# EAGLE library part CY8C-KIT_CY8C-KIT (library BeoModern_display)
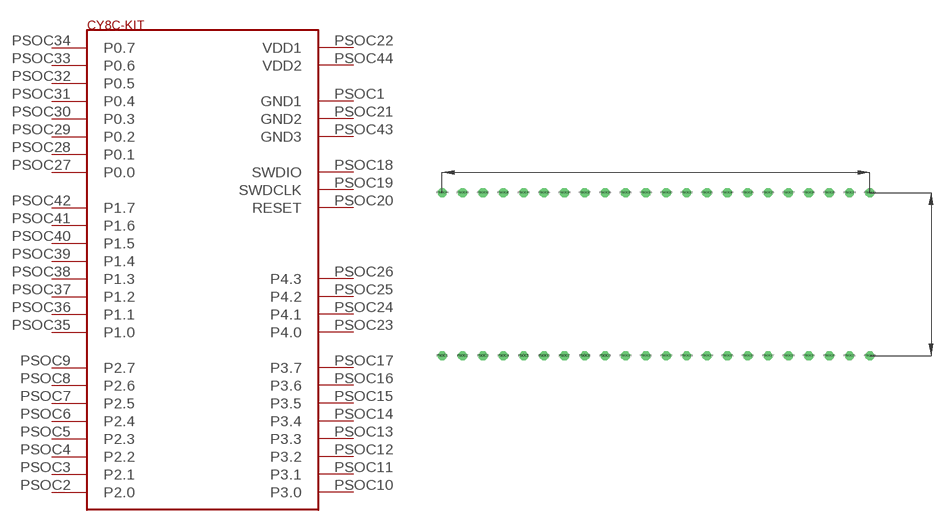
[diagram p0: symbol with the pads of CY8C-KIT_CY8C-KIT-FOOTPRINT; footprint CY8C-KIT_CY8C-KIT-FOOTPRINT]

Designator prefix -

## CY8C-KIT_CY8C-KIT  [CY8C-KIT_CY8C-KIT-FOOTPRINT]
PSOC1  GND1
PSOC2  P2.0
PSOC3  P2.1
PSOC4  P2.2
PSOC5  P2.3
PSOC6  P2.4
PSOC7  P2.5
PSOC8  P2.6
PSOC9  P2.7
PSOC10  P3.0
PSOC11  P3.1
PSOC12  P3.2
PSOC13  P3.3
PSOC14  P3.4
PSOC15  P3.5
PSOC16  P3.6
PSOC17  P3.7
PSOC18  SWDIO
PSOC19  SWDCLK
PSOC20  RESET
PSOC21  GND2
PSOC22  VDD1
PSOC23  P4.0
PSOC24  P4.1
PSOC25  P4.2
PSOC26  P4.3
PSOC27  P0.0
PSOC28  P0.1
PSOC29  P0.2
PSOC30  P0.3
PSOC31  P0.4
PSOC32  P0.5
PSOC33  P0.6
PSOC34  P0.7
PSOC35  P1.0
PSOC36  P1.1
PSOC37  P1.2
PSOC38  P1.3
PSOC39  P1.4
PSOC40  P1.5
PSOC41  P1.6
PSOC42  P1.7
PSOC43  GND3
PSOC44  VDD2

## Footprint CY8C-KIT_CY8C-KIT-FOOTPRINT (pad centres in mm)
drill 0.6 octagon: PSOC1 -49.53,-11.43; PSOC2 -46.99,-11.43; PSOC3 -44.45,-11.43; PSOC4 -41.91,-11.43; PSOC5 -39.37,-11.43; PSOC6 -36.83,-11.43; PSOC7 -34.29,-11.43; PSOC8 -31.75,-11.43; PSOC9 -29.21,-11.43; PSOC10 -26.67,-11.43; PSOC11 -24.13,-11.43; PSOC12 -21.59,-11.43; PSOC13 -19.05,-11.43; PSOC14 -16.51,-11.43; PSOC15 -13.97,-11.43; PSOC16 -11.43,-11.43; PSOC17 -8.89,-11.43; PSOC18 -6.35,-11.43; PSOC19 -3.81,-11.43; PSOC20 -1.27,-11.43; PSOC21 1.27,-11.43; PSOC22 3.81,-11.43; PSOC23 3.81,8.89; PSOC24 1.27,8.89; PSOC25 -1.27,8.89; PSOC26 -3.81,8.89; PSOC27 -6.35,8.89; PSOC28 -8.89,8.89; PSOC29 -11.43,8.89; PSOC30 -13.97,8.89; PSOC31 -16.51,8.89; PSOC32 -19.05,8.89; PSOC33 -21.59,8.89; PSOC34 -24.13,8.89; PSOC35 -26.67,8.89; PSOC36 -29.21,8.89; PSOC37 -31.75,8.89; PSOC38 -34.29,8.89; PSOC39 -36.83,8.89; PSOC40 -39.37,8.89; PSOC41 -41.91,8.89; PSOC42 -44.45,8.89; PSOC43 -46.99,8.89; PSOC44 -49.53,8.89